# Altium integrated library TE D-Shaped Connectors.IntLib: 7 symbols
Pins are listed as number, name and electrical type; pins without a type are passive.

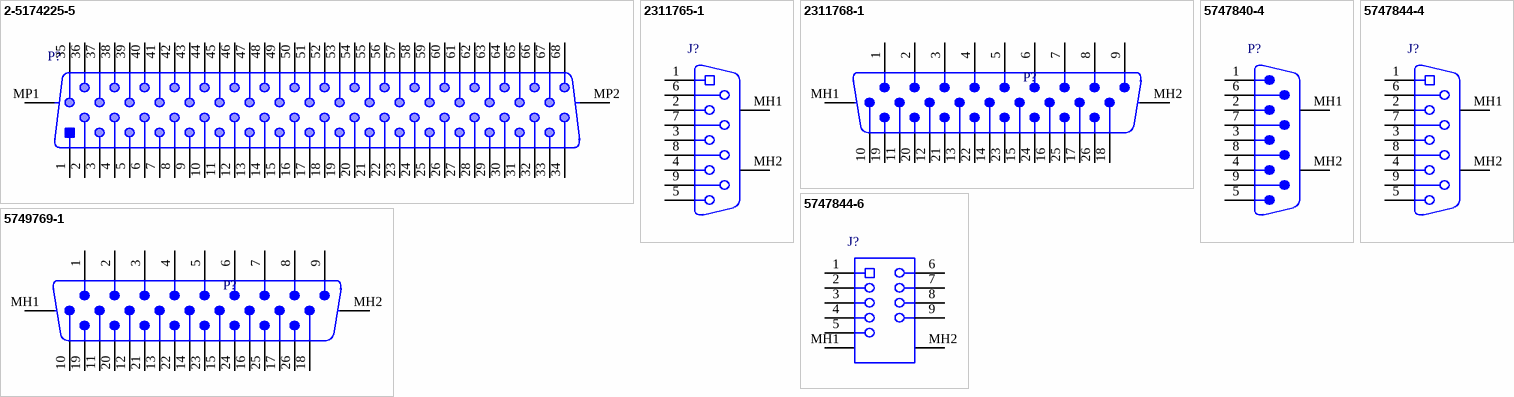
[diagram p0: symbols 2-5174225-5 to 5749769-1]

## 2-5174225-5
designator P?
Male D-Sub Connector, Pitch 1.27 mm, 2 x 34 Position, Height 10.3 mm, Tail Length 2.1 mm, -55 to 85 degC, RoHS, Tray; Manufacturer: TE Connectivity; PartNumber: 2-5174225-5; Connector Style: D-Type; Dynamic Catalog: AMPLIMITE .050 II Series; Other Names: A33476; Connector Type: Cap, Male Pins; Current Rating: 1A; Number of Positions: 68; Product Training Modules: AMPLIMITE D-Sub Connectors; 3D Model: 2-5174225-5.pdf; Featured Product: AMPLIMITE D-Subminiature Connectors; Voltage Rating: 100V; Flange Feature: Housing/Shell (M2.5); Latchblocks; DatasheetVersion: Rev. C1; PackageReference: THD; PackageDescription: Male D-Sub Connector, Pitch 1.27 mm, 2 x 34 Position, Height 10.3 mm, Tail Length 2.1 mm; Supplier 1: Digi-Key; Supplier Part Number 1: A33476-ND; Shell Material, Finish: Zinc, Nickel Plated; Features: Shielded; Operating Temperature: -55°C ~ 85°C; Color: Black; Contact Finish Thickness: 30µin (0.76µm); Shell Size, Connector Layout: 0.050 Pitch x 0.100 Row to Row; Termination: Solder; Family: D-Sub Connectors; Contact Finish: Gold; Contact Type: Signal; Housing Material: Polybutylene Terephthalate (PBT); RoHS Information: 2-5174225-5 Statement of Compliance; Mounting Type: Through Hole, Right Angle; Series: AMPLIMITE .050 II; Standard Package: 4; Number of Rows: 2; Category: Connectors, Interconnects; ComponentLink1Description: Manufacturer URL; ComponentLink1URL: http://www.te.com; ComponentLink2Description: Datasheet; ComponentLink2URL: http://www.te.com.cn/commerce/DocumentDelivery/DDEController?Action=showdoc&DocId=Customer+Drawing%7F5174225%7FC1%7Fpdf%7FEnglish%7FENG_CD_5174225_C1.pdf%7F2-5174225-5
footprint TECO-2-5174225-5-68_V (Connector, 68-Leads, Pitch 2.54 mm)
pins: 1, 2, 3, 4, 5, 6, 7, 8, 9, 10, 11, 12, 13, 14, 15, 16, 17, 18, 19, 20, 21, 22, 23, 24, 25, 26, 27, 28, 29, 30, 31, 32, 33, 34, 35, 36, 37, 38, 39, 40, 41, 42, 43, 44, 45, 46, 47, 48, 49, 50, 51, 52, 53, 54, 55, 56, 57, 58, 59, 60, 61, 62, 63, 64, 65, 66, 67, 68, MP1, MP2

## 2311765-1
designator J?
D-Sub Receptacle, Pitch 2.77 mm, 1 x 9 Position, Height 12.55 mm, -55 to 105 degC, RoHS; Manufacturer: TE Connectivity; PartNumber: 2311765-1; DatasheetVersion: Rev. B, 10/2017; PackageReference: 2311765-1; PackageDescription: D-Sub Receptacle, Pitch 2.77 mm, 1 x 9 Position, Height 12.55 mm; Mounting Technology: Through Hole; ComponentLink1Description: Manufacturer URL; ComponentLink1URL: http://www.te.com/; ComponentLink2Description: Datasheet; ComponentLink2URL: http://www.te.com/commerce/DocumentDelivery/DDEController?Action=showdoc&DocId=Customer+Drawing%7F2311765%7FB%7Fpdf%7FEnglish%7FENG_CD_2311765_B.pdf%7F2311765-1
footprint TECO-2311765-1_V (TH, 9-Leads, Body 30.81x18.2mm, Pitch 2.77mm)
pins: 1, 2, 3, 4, 5, 6, 7, 8, 9, MH1, MH2

## 2311768-1
designator P?
Receptacle Assembly, Pitch 2.29 mm, 3 Row, 26 Positions, Height 12.8 mm, Tail Length 3.56 mm, -55 to 105 degC, RoHS; Manufacturer: TE Connectivity; PartNumber: 2311768-1; DatasheetVersion: 05/2017; PackageReference: 2311768-1; PackageDescription: Receptacle Assembly, Pitch 2.29 mm, 3 Row, 26 Positions, Height 12.8 mm, Tail Length 3.56 mm; Mounting Technology: Through Hole; ComponentLink1Description: Manufacturer URL; ComponentLink1URL: http://www.te.com/; ComponentLink2Description: Datasheet; ComponentLink2URL: http://www.te.com/commerce/DocumentDelivery/DDEController?Action=showdoc&DocId=Customer+Drawing%7F2311768%7FB%7Fpdf%7FEnglish%7FENG_CD_2311768_B.pdf%7F2311768-1
footprint TECO-2311768-1_V (THD, 26-Leads, Body 39.14x21.8mm, Pitch 2.29mm)
pins: 1, 2, 3, 4, 5, 6, 7, 8, 9, 10, 11, 12, 13, 14, 15, 16, 17, 18, 19, 20, 21, 22, 23, 24, 25, 26, MH1, MH2

## 5747840-4
designator P?
Male D-Sub Connector, Pitch 1.37 mm, 9 Position, Height 12.93 mm, Tail Length 3.55 mm, -55 to 105 degC, RoHS, Tray; Manufacturer: TE Connectivity; PartNumber: 5747840-4; Catalog Drawings: AMP D-Sub Male .318; Dynamic Catalog: AMPLIMITE HD-20 Series; Other Names: A32092; Mating Products: 5-747905-7-ND / - CONN D-SUB RCPT 9POS VERT SLD / 5-787355-1-ND / - CONN RCPT 9POS VERT SOLDER CUP / 5746861-4-ND / - CONN RECEPT 9 POS GOLD IDC / A32510-ND / - CONN D-SUB RCPT 9POS SLD CUP AU / AFL09B-ND / - CONN D-SUB RECEPT 9POS 30 GOLD / A31975-ND / - CONN D-SUB RECEPT 9P 22-26AWG AU / A31974-ND / - CONN D-SUB RECEPT 9P 20-22AWG AU / A31973-ND / - CONN D-SUB RECEPT 9P 26-30AWG AU / A31931-ND / - CONN D-SUB RCPT 9POS 22-26AWG AU; Connector Type: Plug, Male Pins; Current Rating: 6A; Number of Positions: 9; Product Training Modules: AMPLIMITE D-Sub Connectors; 3D Model: 5747840-4.pdf; Featured Product: AMPLIMITE D-Subminiature Connectors; Voltage Rating: 125V; Flange Feature: Housing/Shell (4-40); DatasheetVersion: Rev. D; PackageReference: THD; PackageDescription: 9-Pin Through Hole Device, Body 30.81 x 18.62 mm, Pitch 1.37 mm; Supplier 1: Digi-Key; Supplier Part Number 1: A32092-ND; Connector Style: D-Sub; Shell Material, Finish: Steel, Tin Plated; Features: Board Lock, Ground Strap, Grounding Indents; Operating Temperature: -55°C ~ 105°C; Color: Black; Contact Finish Thickness: Flash; Shell Size, Connector Layout: 1 (DE, E); Termination: Solder; Family: D-Sub Connectors; Contact Finish: Gold; Contact Type: Signal; RoHS Information: 5747840-4 Statement of Compliance; Mounting Type: Through Hole, Right Angle; Series: AMPLIMITE HD-20; Standard Package: 130; Number of Rows: 2; Category: Connectors, Interconnects; ComponentLink1Description: Manufacturer URL; ComponentLink1URL: http://www.te.com; ComponentLink2Description: Datasheet; ComponentLink2URL: http://www.te.com/commerce/DocumentDelivery/DDEController?Action=showdoc&DocId=Customer+Drawing%7F5747840%7FD%7Fpdf%7FEnglish%7FENG_CD_5747840_D.pdf%7F5747840-4
footprint TECO-5747840-4_V (THD, 9-Leads, Body 30.81x18.62mm, Pitch 1.37mm)
pins: 1, 2, 3, 4, 5, 6, 7, 8, 9, MH1, MH2

## 5747844-4
designator J?
Female D-Sub Receptacle, Pitch 1.3716 mm, 9 Position, Height 12.9286 mm, -55 to 105 degC, RoHS, Tray; Manufacturer: TE Connectivity; PartNumber: 5747844-4; Catalog Drawings: AMP D-Sub Male .318; Dynamic Catalog: AMPLIMITE HD-20 Series; Other Names: A32117; Mating Products: A101880-ND / - CONN D-SUB PLUG 9POS SLD CUP / 749808-8-ND / - CONN D-SUB PLUG 9POS CRIMP / 5-747904-8-ND / - CONN D-SUB PLUG 9POS SLD CUP AU / A106369-ND / - CONN D-SUB PLUG KIT 9 POS GOLD / 5-747904-5-ND / - CONN D-SUB PLUG 9POS SLD CUP AU / A32507-ND / - CONN D-SUB PLUG 9POS SLD CUP AU / AMR09B-ND / - CONN D-SUB PLUG 9POS GOLD / AML09B-ND / - CONN D-SUB PLUG 9POS GOLD / A31966-ND / - CONN D-SUB PLUG 9POS 20-22AWG AU / A31965-ND / - CONN D-SUB PLUG 9POS 26-30AWG AU / More...; Connector Type: Receptacle, Female Sockets; Current Rating: 6A; Number of Positions: 9; Product Training Modules: AMPLIMITE D-Sub Connectors; 3D Model: 5747844-4.pdf; Featured Product: AMPLIMITE D-Subminiature Connectors; Voltage Rating: 125V; Flange Feature: Housing/Shell (4-40); DatasheetVersion: Rev. P; PackageReference: THD; PackageDescription: Female D-Sub Receptacle, Pitch 1.3716 mm, 9 Position, Height 12.9286 mm; Supplier 1: Digi-Key; Supplier Part Number 1: A32117-ND; Connector Style: D-Sub; Shell Material, Finish: Steel, Tin Plated; Features: Board Lock, Ground Strap; Operating Temperature: -55°C ~ 105°C; Color: Black; Contact Finish Thickness: 30µin (0.76µm); Shell Size, Connector Layout: 1 (DE, E); Termination: Solder; Family: D-Sub Connectors; Contact Finish: Gold; Contact Type: Signal; Housing Material: Thermoplastic; RoHS Information: 5747844-4 Statement of Compliance; Mounting Type: Through Hole, Right Angle; Series: AMPLIMITE HD-20; Standard Package: 130; Number of Rows: 2; Category: Connectors, Interconnects; ComponentLink1Description: Manufacturer URL; ComponentLink1URL: http://www.te.com; ComponentLink2Description: Datasheet; ComponentLink2URL: http://www.te.com/commerce/DocumentDelivery/DDEController?Action=srchrtrv&DocNm=5747844&DocType=Customer+Drawing&DocLang=English
footprint TE-5747844-4_V (TH, 9-Leads, Body 30.81x18.796mm, Pitch 1.3716mm)
pins: 1, 2, 3, 4, 5, 6, 7, 8, 9, MH1, MH2

## 5747844-6
designator J?
Front Metal Shell, Pitch 2.743 mm, 9 Position, Height 12.93 mm, RoHS, Tray; Manufacturer: TE Connectivity; PartNumber: 5747844-6; Catalog Drawings: AMP D-Sub Male .318; Connector Style: D-Sub; Dynamic Catalog: AMPLIMITE HD-20 Series; Other Names: A32119; Mating Products: AML09B-ND / - CONN D-SUB PLUG 9POS GOLD; Connector Type: Receptacle, Female Sockets; Current Rating: 6A; Number of Positions: 9; Product Training Modules: AMPLIMITE D-Sub Connectors; 3D Model: 5747844-6.pdf; Featured Product: AMPLIMITE D-Subminiature Connectors; Voltage Rating: 125V; Flange Feature: Mating Side; Female Screwlock (4-40); DatasheetVersion: Rev. P; PackageReference: THD; PackageDescription: Front Metal Shell, Pitch 2.743 mm, 9 Position, Height 12.93 mm; Supplier 1: Digi-Key; Supplier Part Number 1: A32119-ND; Shell Material, Finish: Steel, Tin Plated; Features: Board Lock, Ground Strap; Operating Temperature: -55°C ~ 105°C; Color: Black; Contact Finish Thickness: 30µin (0.76µm); Shell Size, Connector Layout: 1 (DE, E); Termination: Solder; Family: D-Sub Connectors; Contact Finish: Gold; Contact Type: Signal; Housing Material: Thermoplastic; RoHS Information: 5747844-6 Statement of Compliance; Mounting Type: Through Hole, Right Angle; Series: AMPLIMITE HD-20; Standard Package: 130; Number of Rows: 2; Category: Connectors, Interconnects; ComponentLink1Description: Manufacturer URL; ComponentLink1URL: http://www.te.com; ComponentLink2Description: Datasheet; ComponentLink2URL: http://www.te.com/commerce/DocumentDelivery/DDEController?Action=showdoc&DocId=Customer+Drawing%7F5747844%7FP%7Fpdf%7FEnglish%7FENG_CD_5747844_P.pdf%7F5747844-6
footprint TECO-5747844-6_V (Connector, 9-Leads, Body 18.796x30.81mm, Pitch 2.743mm)
pins: 1, 2, 3, 4, 5, 6, 7, 8, 9, MH1, MH2

## 5749769-1
designator P?
High Density Plug, Pitch 2.29 mm, 26 Position, Height 12.88 mm, Tail Length 3.18 mm, -55 to 105 degC, RoHS, Tray; Manufacturer: TE Connectivity; PartNumber: 5749769-1; Case\/Package: Metal; Plating: Nickel; Gender: Male; Current Rating: 2 A; Voltage Rating: 125 V; Max Voltage Rating (AC): 250 V; Approvals: UL; DatasheetVersion: Rev. B2, 12/2015; PackageReference: 5749769-1; PackageDescription: High Density Plug, Pitch 2.29 mm, 26 Position, Height 12.88 mm, Tail Length 3.18 mm; Supplier 1: Digi-Key; Supplier Part Number 1: A115479-ND; RoHSCompliant: true; Mount: Through Hole; Contact Plating: Gold; Colour: Black; Body Material: Metal; Material: Metal; Number of Terminals: 26; Insulation Material: Thermoplastic; Min Operating Temperature: -55 degC; Max Operating Temperature: 105 degC; Mounting Technology: Through Hole; Radiation Hardening: No; REACH SVHC: Unknown; ELV: Compliant; Lead Free: Lead Free; Flammability Rating: UL94 V-0; ComponentLink1Description: Manufacturer URL; ComponentLink1URL: http://www.te.com/; ComponentLink2Description: Datasheet; ComponentLink2URL: https://media.digikey.com/pdf/Data%20Sheets/Tyco%20Electonics%20AMP%20PDFs/5749769_Dwg.pdf
footprint TECO-5749769-1_V (THD, 26-Leads, Body 39.2x21.06mm, Pitch 2.29mm)
pins: 1, 2, 3, 4, 5, 6, 7, 8, 9, 10, 11, 12, 13, 14, 15, 16, 17, 18, 19, 20, 21, 22, 23, 24, 25, 26, MH1, MH2